# Altium schematic symbol library BV020-5413.0.Schlib: 1 symbol
Pins are listed as number, name and electrical type; pins without a type are passive.

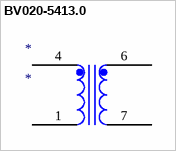
[diagram p0: symbol BV020-5413.0]

## BV020-5413.0
designator *
pins: 1, 4, 6, 7